# EAGLE library part MINI-USB-AB (library Traficon)
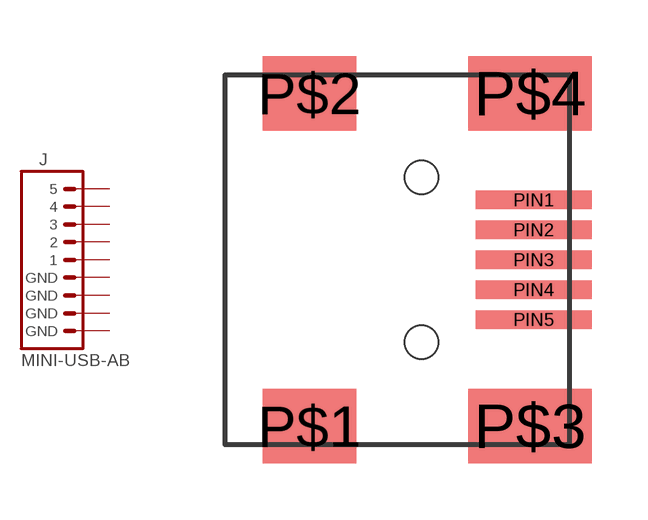
[diagram p121: symbol with the pads of MINI-USB-AB; footprint MINI-USB-AB]

Designator prefix J

## MINI-USB-AB  [MINI-USB-AB]
P$1  GND  pas
P$2  GND  pas
P$3  GND  pas
P$4  GND  pas
PIN1  1  pas
PIN2  2  pas
PIN3  3  pas
PIN4  4  pas
PIN5  5  pas

## Footprint MINI-USB-AB (pad centres in mm)
smd 2.5 x 2: P$1 2.25,-4.45; P$2 2.25,4.45
smd 3.3 x 2: P$3 8.15,-4.45; P$4 8.15,4.45
smd 3.1 x 0.5: PIN1 8.25,1.6; PIN2 8.25,0.8; PIN3 8.25,0; PIN4 8.25,-0.8; PIN5 8.25,-1.6
hole 0.9 at 5.25,-2.2
hole 0.9 at 5.25,2.2